# EAGLE library part ARE1012 (library Relay)
RELAY RF SPDT 500MA 12V Manufacturer's datasheet <https://www3.panasonic.biz/ac/e/control/relay/device-hi/re/size_figure/index.jsp>
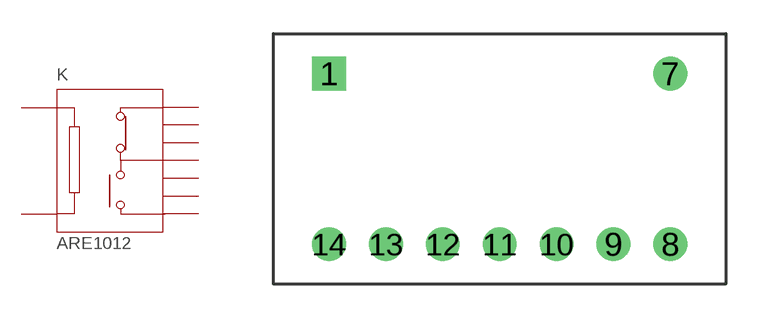
[diagram p4: symbol with the pads of ARE1012; footprint ARE1012]

Designator prefix K

## ARE1012 (CREATED_BY: PCBLayout.com; DIGIKEY_PARTNO: ARE1012-ND; MANUFACTURER: Panasonic Electric Works; MPN: ARE1012)  [ARE1012]
1  1  pas
7  7  pas
8  8  pas
9  9  pas
10  10  pas
11  11  pas
12  12  pas
13  13  pas
14  14  pas

## Footprint ARE1012 (pad centres in mm)
drill 1 square: 1 -7.62,3.81
drill 1: 7 7.62,3.81; 8 7.62,-3.81; 9 5.08,-3.81; 10 2.54,-3.81; 11 0,-3.81; 12 -2.54,-3.81; 13 -5.08,-3.81; 14 -7.62,-3.81